# Altium footprint library Jarrett.PcbLib: 8 footprints
Each footprint in its own frame and in the unit in brackets; x right, y up, seen from the top. Pads: shape width x height; smd on the part's side, far side on the other; paste and mask are expansions set on the pad; w line width, h text height; cw(c..) or ccw(c..) is an arc to the next point about the centre after c.
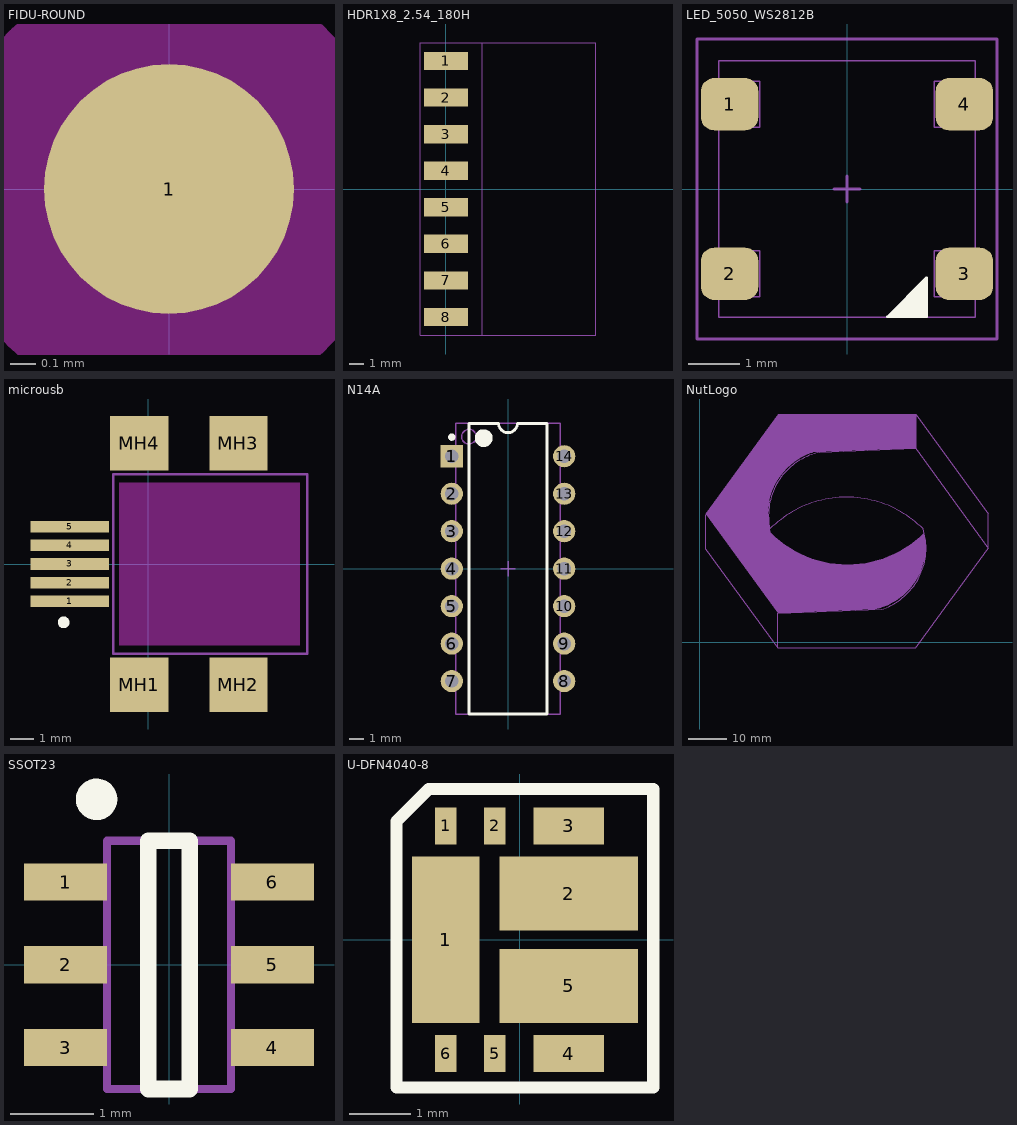
[diagram p0: the footprints below, top view; thin cyan lines are the x and y axes]

## FIDU-ROUND [mm]
pads (1):
  round 1 smd paste-0.508 mask+0.508: 1(0,0)
Keep-Out Layer:
  circle w0.6: c0,0 r0.6

## HDR1X8_2.54_180H [mil]
height 169.29
pads (8):
  rect 120x50 smd: 1(0,350) 2(0,250) 3(0,150) 4(0,50) 5(0,-50) 6(0,-150) 7(0,-250) 8(0,-350)
Mechanical 13:
  lines w2: -70,-400 410,-400 410,400 -70,400 -70,-400
Mechanical 14:
  lines w2: -70,-400 -70,400 100,400 100,-400 -70,-400

## LED_5050_WS2812B [mil]
pads (4):
  rrect50% 44x40 smd: 1(-90,65) 2(-90,-65) 3(90,-65) 4(90,65)
Top Overlay:
  region: 61,-98 31,-98 61,-68
  lines w2: 31,-98 61,-68 61,-98 31,-98
Mechanical 13:
  lines w1: -101.93,-82.45 -66.93,-82.45 -66.93,-47.45 -101.93,-47.45 -101.93,-82.45 ; -101.93,47.46 -101.93,82.46 -66.93,82.46 -66.93,47.46 -101.93,47.46 ; -98.43,-98.43 -98.43,98.43 98.43,98.43 98.43,-98.43 -98.43,-98.43 ; 66.93,-82.45 66.93,-47.45 101.93,-47.45 101.93,-82.45 66.93,-82.45 ; 66.93,47.46 101.93,47.46 101.93,82.46 66.93,82.46 66.93,47.46
  lines w2: -10,0 10,0 ; 0,-10 0,10
Mechanical 14:
  lines w2: -115,-115 115,-115 115,115 -115,115 -115,-115
3D body: height 69.02, standoff 0.13, extent -106.29,-98.42 106.3,98.43

## microusb [mm] "Connector; USB Mini-B, Sinking Type, SM; 5 Position; Right Angle"
height 0.35
pads (9):
  rect 3.35x0.5 smd mask+0.05: 1(-3.362,-1.6) 2(-3.362,-0.8) 3(-3.362,0) 4(-3.362,0.8)
  rect 3.35x0.5 smd paste+0 mask+0.05: 5(-3.362,1.6)
  rect 2.5x2.35 smd: MH1(-0.387,-5.175) MH2(3.863,-5.175) MH3(3.863,5.175) MH4(-0.387,5.175)
Top Overlay:
  circle w0.25: c-3.625,-2.5 r0.125
Keep-Out Layer:
  rectangle: -1.25,-3.5 6.5,3.5
Mechanical 13:
  lines w0.1: -1.5,-3.85 6.813,-3.85 6.813,3.85 -1.5,3.85 -1.5,-3.85
3D body: height 0.35, standoff -3.25, extent -1.5,-3.85 6.801,3.861

## N14A [mm] "DIP, 14-Leads, Row Spacing 7.62mm, Pitch 2.54mm, Body 19.56x6.35mm"
height 5.08
pads (14):
  rect 1.5x1.5 hole 0.9: 1(-3.81,7.62)
  round 1.5 hole 0.9: 2(-3.81,5.08) 3(-3.81,2.54) 4(-3.81,0) 5(-3.81,-2.54) 6(-3.81,-5.08) 7(-3.81,-7.62) 8(3.81,-7.62) 9(3.81,-5.08) 10(3.81,-2.54) 11(3.81,0) 12(3.81,2.54) 13(3.81,5.08) 14(3.81,7.62)
Top Overlay:
  circle w0.6: c-1.65,8.85 r0.3
  circle w0.25: c-3.81,8.92 r0.125
  lines w0.2: -2.65,-9.85 2.65,-9.85 2.65,9.85 0.635,9.85 cw(c0,9.85) -0.635,9.85 -2.65,9.85 -2.65,-9.85
Mechanical 13:
  circle w0.1: c-2.65,8.95 r0.5
  lines w0.1: -3.55,-9.85 3.55,-9.85 3.55,9.85 -3.55,9.85 -3.55,-9.85
Mechanical 15:
  lines w0.1: -0.5,0 0.5,0 ; 0,-0.5 0,0.5
3D body: height 5.08, standoff 0, extent -3.55,-9.85 3.55,9.85

## NutLogo [mm]
Bottom Overlay:
  region: 56.5,50.5 29.5,49.5 29.499,49.503 29.346,49.452 28.638,49.216 27.532,48.758 26.461,48.222 25.431,47.611 24.448,46.928 23.516,46.177 22.639,45.361 21.823,44.484 21.072,43.552 20.389,42.569 19.778,41.539 19.242,40.468 18.784,39.362 18.406,38.226 18.11,37.066 17.897,35.887 17.769,34.697 17.726,33.5 17.769,32.303 17.897,31.113 18.11,29.934 18.406,28.774 18.497,28.499 18.498,28.498 18.492,28.492 19.645,27.402 20.858,26.378 22.126,25.423 23.446,24.542 24.813,23.735 26.223,23.007 27.672,22.358 29.155,21.792 30.667,21.31 32.204,20.914 33.76,20.604 35.332,20.383 36.913,20.249 38.5,20.205 40.087,20.249 41.668,20.383 43.24,20.604 44.796,20.914 46.333,21.31 47.845,21.792 49.328,22.358 50.777,23.007 52.187,23.735 53.554,24.542 54.874,25.423 56.142,26.378 57.355,27.402 58.412,28.402 58.533,28.362 58.706,27.402 58.835,26.204 58.878,25 58.835,23.796 58.706,22.598 58.492,21.412 58.194,20.245 57.814,19.102 57.353,17.989 56.813,16.911 56.199,15.875 55.511,14.885 54.755,13.947 53.934,13.066 53.053,12.245 52.115,11.489 51.125,10.801 50.089,10.187 49.011,9.647 47.898,9.186 46.755,8.806 45.588,8.508 45.502,8.492 45.5,8.5 20.5,7.5 1.5,33.5 20.5,59.5 56.5,59.5
  lines w0.15: 1.5,24.25 20.25,-1.5 20.25,5.5 ; 56.5,59.25 75.25,33.5
  lines w0.203: 1.5,24.25 1.5,33.25 ; 75.25,33.5 75.25,24.5 ; 75.25,24.5 56.25,50.5 31.25,49.5 ccw(c34.75,33) 18.25,29.5 cw(c38.25,9.5) 58.25,29.5 cw(c42.25,24.5) 59.013,24.5 cw(c42.25,24.5) 47.25,8.5 20.25,7.5 20.25,-1.5 56.25,-1.5 75.25,24.5

## SSOT23 [mm] "Super SOT-3"
height 2.6
pads (6):
  rect 1x0.45 smd: 1(-1.25,1) 2(-1.25,0) 3(-1.25,-1) 4(1.25,-1) 5(1.25,0) 6(1.25,1)
Top Overlay:
  circle w0.25: c-0.875,2 r0.125
  lines w0.2: -0.25,-1.5 -0.25,1.5 0.25,1.5 0.25,-1.5 -0.25,-1.5
Mechanical 13:
  lines w0.1: -0.75,-1.5 0.75,-1.5 0.75,1.5 -0.75,1.5 -0.75,-1.5
3D body: height 2.6, standoff 0, extent -0.75,-1.5 0.75,1.5

## U-DFN4040-8 [mm]
pads (9):
  rect 1.1x2.7 smd mask+0.075: 1(-1.2,0)
  rect 0.35x0.6 smd mask+0.075: 1(-1.2,1.85) 2(-0.4,1.85) 5(-0.4,-1.85) 6(-1.2,-1.85)
  rect 2.25x1.2 smd mask+0.075: 2(0.8,0.75) 5(0.8,-0.75)
  rect 1.15x0.6 smd mask+0.075: 3(0.8,1.85) 4(0.8,-1.85)
Top Overlay:
  lines w0.2: -2,-2.4 -2,1.925 -1.475,2.45 2.175,2.45 2.175,-2.4 -2,-2.4